# Altium footprint library IC_SMD_DUAL.PCBLIB: 187 footprints (part 1 of 12)
Each footprint in its own frame and in the unit in brackets; x right, y up, seen from the top. Pads: shape width x height; smd on the part's side, far side on the other; paste and mask are expansions set on the pad; w line width, h text height; cw(c..) or ccw(c..) is an arc to the next point about the centre after c.
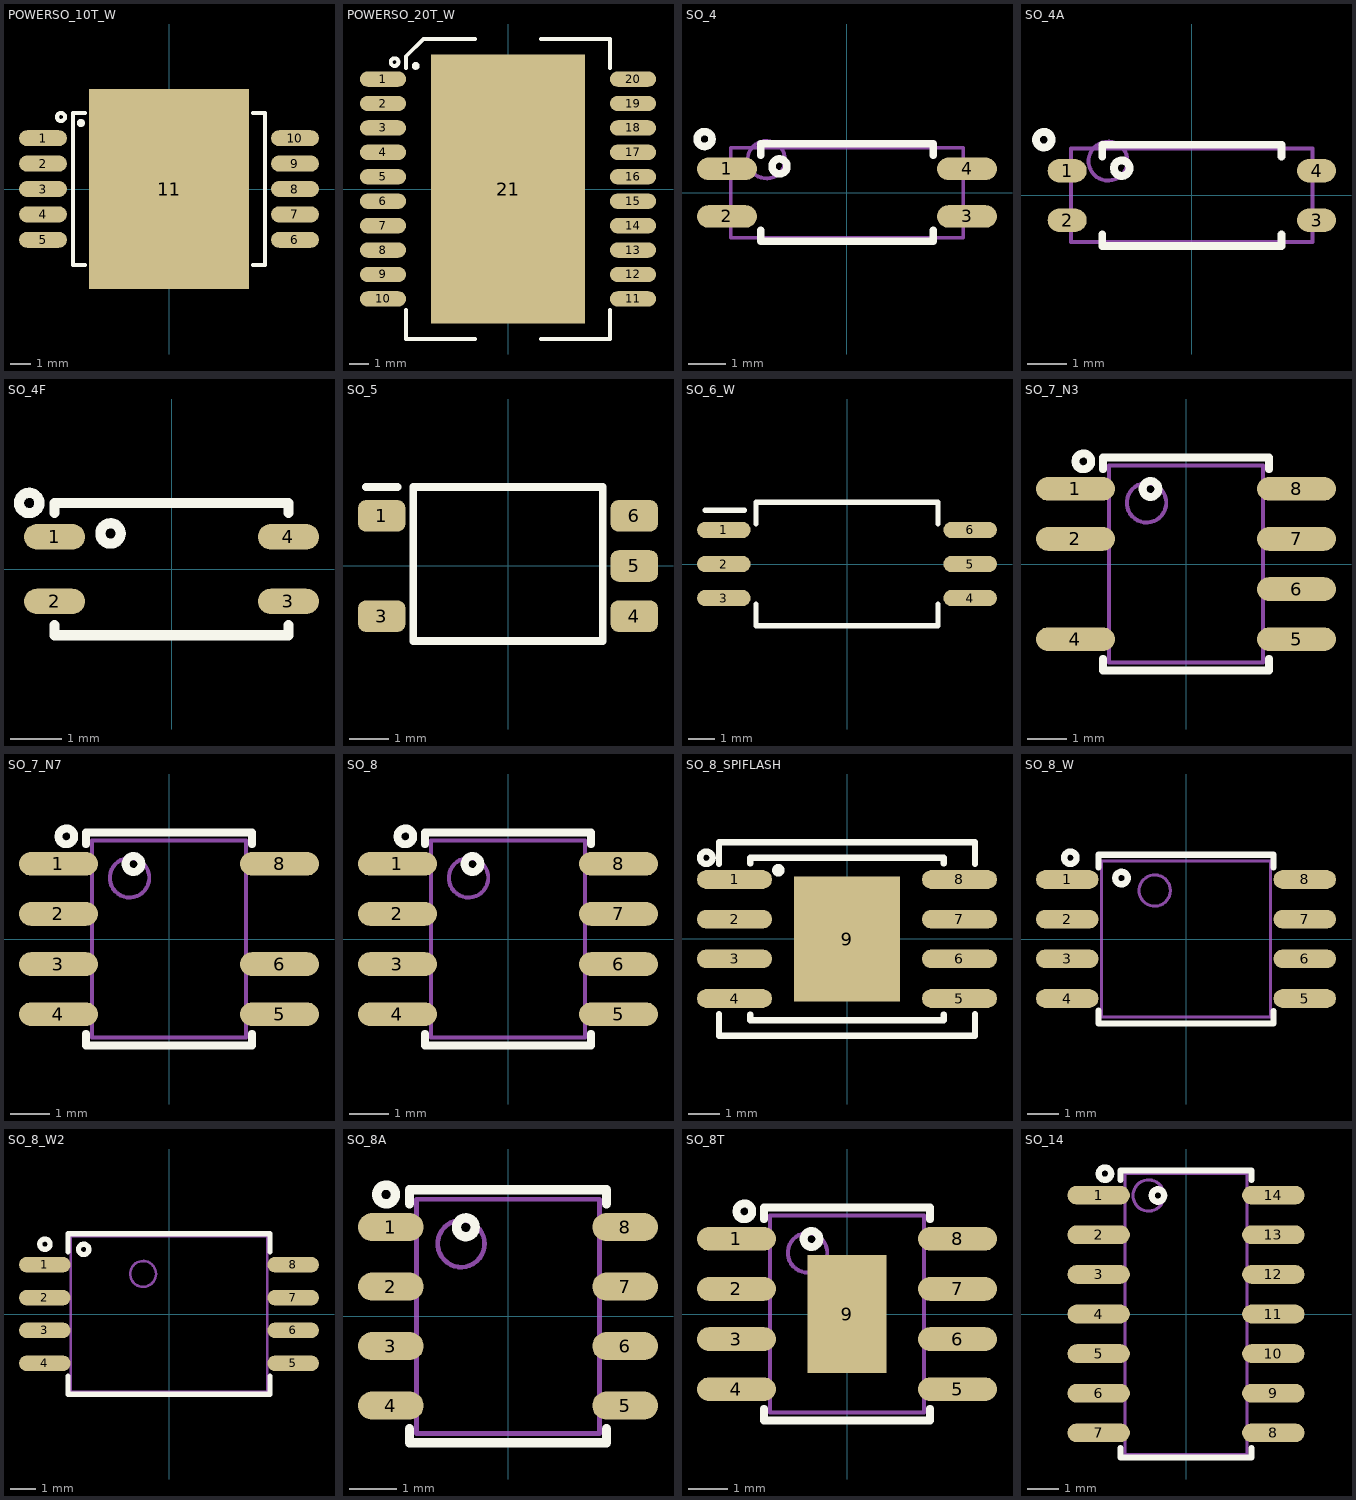
[diagram p0: the footprints below, top view; thin cyan lines are the x and y axes]

## POWERSO_10T_W [mm] "PowerSO-10, 9.4x9.4x3.7mm body, 1.27mm pitch"
height 3.7
pads (11):
  oval 2.4x0.8 smd: 1(-6.3,2.54) 2(-6.3,1.27) 3(-6.3,0) 4(-6.3,-1.27) 5(-6.3,-2.54) 6(6.3,-2.54) 7(6.3,-1.27) 8(6.3,0) 9(6.3,1.27) 10(6.3,2.54)
  rect 8x10 smd paste-5: 11(0,0)
TopOverlay:
  circle w0.2: c-4.4,3.3 r0.1
  circle w0.2: c-5.4,3.6 r0.2
  lines w0.2: -4.2,-3.8 -4.8,-3.8 -4.8,3.8 -4.2,3.8 ; 4.2,-3.8 4.8,-3.8 4.8,3.8 4.2,3.8
TopPaste:
  region: 2.5,-2.8 1.5,-2.8 1.5,-3.8 2.5,-3.8
  region: 1.2,-2.8 0.2,-2.8 0.2,-3.8 1.2,-3.8
  region: 3.8,-2.8 2.8,-2.8 2.8,-3.8 3.8,-3.8
  rectangle: -3.8,-3.8 -2.8,-2.8
  rectangle: -1.2,-3.8 -0.2,-2.8
  rectangle: -2.5,-3.8 -1.5,-2.8
  region: 2.5,3.8 1.5,3.8 1.5,2.8 2.5,2.8
  region: 1.2,3.8 0.2,3.8 0.2,2.8 1.2,2.8
  region: 3.8,3.8 2.8,3.8 2.8,2.8 3.8,2.8
  rectangle: -3.8,2.8 -2.8,3.8
  rectangle: -1.2,2.8 -0.2,3.8
  rectangle: -2.5,2.8 -1.5,3.8
  rectangle: -1.2,0.2 -0.2,1.2
  rectangle: -2.5,1.5 -1.5,2.5
  rectangle: -1.2,1.5 -0.2,2.5
  rectangle: -2.5,0.2 -1.5,1.2
  rectangle: -3.8,0.2 -2.8,1.2
  rectangle: -3.8,1.5 -2.8,2.5
  region: 3.8,2.5 2.8,2.5 2.8,1.5 3.8,1.5
  region: 3.8,1.2 2.8,1.2 2.8,0.2 3.8,0.2
  region: 2.5,1.2 1.5,1.2 1.5,0.2 2.5,0.2
  region: 1.2,2.5 0.2,2.5 0.2,1.5 1.2,1.5
  region: 2.5,2.5 1.5,2.5 1.5,1.5 2.5,1.5
  region: 1.2,1.2 0.2,1.2 0.2,0.2 1.2,0.2
  region: 1.2,-0.2 0.2,-0.2 0.2,-1.2 1.2,-1.2
  region: 2.5,-1.5 1.5,-1.5 1.5,-2.5 2.5,-2.5
  region: 1.2,-1.5 0.2,-1.5 0.2,-2.5 1.2,-2.5
  region: 2.5,-0.2 1.5,-0.2 1.5,-1.2 2.5,-1.2
  region: 3.8,-0.2 2.8,-0.2 2.8,-1.2 3.8,-1.2
  region: 3.8,-1.5 2.8,-1.5 2.8,-2.5 3.8,-2.5
  rectangle: -3.8,-2.5 -2.8,-1.5
  rectangle: -3.8,-1.2 -2.8,-0.2
  rectangle: -2.5,-1.2 -1.5,-0.2
  rectangle: -1.2,-2.5 -0.2,-1.5
  rectangle: -2.5,-2.5 -1.5,-1.5
  rectangle: -1.2,-1.2 -0.2,-0.2
3D body "User Library-POWERSO10.step": height 3.35, standoff 0, extent -6.95,-4.7 6.95,4.7

## POWERSO_20T_W [mm] "PowerSO-20, 9.4x14.2x3.6mm body, 1.27mm pitch"
height 3.7
pads (21):
  oval 2.4x0.8 smd: 1(-6.5,5.715) 2(-6.5,4.445) 3(-6.5,3.175) 4(-6.5,1.905) 5(-6.5,0.635) 6(-6.5,-0.635) 7(-6.5,-1.905) 8(-6.5,-3.175) 9(-6.5,-4.445) 10(-6.5,-5.715) 11(6.5,-5.715) 12(6.5,-4.445) 13(6.5,-3.175) 14(6.5,-1.905) 15(6.5,-0.635) 16(6.5,0.635) 17(6.5,1.905) 18(6.5,3.175) 19(6.5,4.445) 20(6.5,5.715)
  rect 8x14 smd paste-5: 21(0,0)
TopOverlay:
  circle w0.2: c-4.8,6.4 r0.1
  circle w0.2: c-5.9,6.6 r0.2
  lines w0.2: -5.3,-6.3 -5.3,-7.8 -1.7,-7.8 ; -5.3,6.3 -5.3,6.9 -4.4,7.8 -1.7,7.8 ; 1.7,-7.8 5.3,-7.8 5.3,-6.3 ; 1.7,7.8 5.3,7.8 5.3,6.3
TopPaste:
  region: 2.5,-5.4 1.5,-5.4 1.5,-6.4 2.5,-6.4
  region: 1.2,-5.4 0.2,-5.4 0.2,-6.4 1.2,-6.4
  region: 3.8,-5.4 2.8,-5.4 2.8,-6.4 3.8,-6.4
  rectangle: -3.8,-6.4 -2.8,-5.4
  rectangle: -1.2,-6.4 -0.2,-5.4
  rectangle: -2.5,-6.4 -1.5,-5.4
  rectangle: -2.5,-5.1 -1.5,-4.1
  rectangle: -1.2,-5.1 -0.2,-4.1
  rectangle: -3.8,-5.1 -2.8,-4.1
  region: 3.8,-4.1 2.8,-4.1 2.8,-5.1 3.8,-5.1
  region: 1.2,-4.1 0.2,-4.1 0.2,-5.1 1.2,-5.1
  region: 2.5,-4.1 1.5,-4.1 1.5,-5.1 2.5,-5.1
  region: 2.5,6.4 1.5,6.4 1.5,5.4 2.5,5.4
  region: 1.2,6.4 0.2,6.4 0.2,5.4 1.2,5.4
  region: 3.8,6.4 2.8,6.4 2.8,5.4 3.8,5.4
  rectangle: -3.8,5.4 -2.8,6.4
  rectangle: -1.2,5.4 -0.2,6.4
  rectangle: -2.5,5.4 -1.5,6.4
  rectangle: -2.5,4.1 -1.5,5.1
  rectangle: -1.2,4.1 -0.2,5.1
  rectangle: -3.8,4.1 -2.8,5.1
  region: 3.8,5.1 2.8,5.1 2.8,4.1 3.8,4.1
  region: 1.2,5.1 0.2,5.1 0.2,4.1 1.2,4.1
  region: 2.5,5.1 1.5,5.1 1.5,4.1 2.5,4.1
  region: 2.5,-2.8 1.5,-2.8 1.5,-3.8 2.5,-3.8
  region: 1.2,-2.8 0.2,-2.8 0.2,-3.8 1.2,-3.8
  region: 3.8,-2.8 2.8,-2.8 2.8,-3.8 3.8,-3.8
  rectangle: -3.8,-3.8 -2.8,-2.8
  rectangle: -1.2,-3.8 -0.2,-2.8
  rectangle: -2.5,-3.8 -1.5,-2.8
  region: 2.5,3.8 1.5,3.8 1.5,2.8 2.5,2.8
  region: 1.2,3.8 0.2,3.8 0.2,2.8 1.2,2.8
  region: 3.8,3.8 2.8,3.8 2.8,2.8 3.8,2.8
  rectangle: -3.8,2.8 -2.8,3.8
  rectangle: -1.2,2.8 -0.2,3.8
  rectangle: -2.5,2.8 -1.5,3.8
  rectangle: -1.2,0.2 -0.2,1.2
  rectangle: -2.5,1.5 -1.5,2.5
  rectangle: -1.2,1.5 -0.2,2.5
  rectangle: -2.5,0.2 -1.5,1.2
  rectangle: -3.8,0.2 -2.8,1.2
  rectangle: -3.8,1.5 -2.8,2.5
  region: 3.8,2.5 2.8,2.5 2.8,1.5 3.8,1.5
  region: 3.8,1.2 2.8,1.2 2.8,0.2 3.8,0.2
  region: 2.5,1.2 1.5,1.2 1.5,0.2 2.5,0.2
  region: 1.2,2.5 0.2,2.5 0.2,1.5 1.2,1.5
  region: 2.5,2.5 1.5,2.5 1.5,1.5 2.5,1.5
  region: 1.2,1.2 0.2,1.2 0.2,0.2 1.2,0.2
  region: 1.2,-0.2 0.2,-0.2 0.2,-1.2 1.2,-1.2
  region: 2.5,-1.5 1.5,-1.5 1.5,-2.5 2.5,-2.5
  region: 1.2,-1.5 0.2,-1.5 0.2,-2.5 1.2,-2.5
  region: 2.5,-0.2 1.5,-0.2 1.5,-1.2 2.5,-1.2
  region: 3.8,-0.2 2.8,-0.2 2.8,-1.2 3.8,-1.2
  region: 3.8,-1.5 2.8,-1.5 2.8,-2.5 3.8,-2.5
  rectangle: -3.8,-2.5 -2.8,-1.5
  rectangle: -3.8,-1.2 -2.8,-0.2
  rectangle: -2.5,-1.2 -1.5,-0.2
  rectangle: -1.2,-2.5 -0.2,-1.5
  rectangle: -2.5,-2.5 -1.5,-1.5
  rectangle: -1.2,-1.2 -0.2,-0.2
3D body "User Library-PowerSO20.STEP": height 3.6, standoff 0, extent -7.2,-8 7.2,8

## SO_4 [mm] "SOP-4, 2.6x4.4mm body 1.27mm pitch"
height 2.3
pads (4):
  oval 1.6x0.6 smd: 1(-3.2,0.635) 2(-3.2,-0.635) 3(3.2,-0.635) 4(3.2,0.635)
TopOverlay:
  circle w0.2: c-3.8,1.43 r0.2
  circle w0.2: c-1.8,0.7 r0.2
  lines w0.2: -2.3,-1 -2.3,-1.3 2.3,-1.3 2.3,-1 ; -2.3,1 -2.3,1.3 2.3,1.3 2.3,1
Mechanical13:
  circle w0.1: c-2.15,0.88 r0.5
  lines w0.1: -3.1,-1.2 3.1,-1.2 3.1,1.2 -3.1,1.2 -3.1,-1.2
3D body "CircuitWorks-TLP281.step": height 1.9, standoff 0, extent -3.5,-1.3 3.5,1.3

## SO_4A [mm] "SOP-4, 2.6x4.4mm body 1.27mm pitch"
height 2.3
pads (4):
  oval 1x0.6 smd: 1(-3.2,0.635) 2(-3.2,-0.635) 3(3.2,-0.635) 4(3.2,0.635)
TopOverlay:
  circle w0.2: c-3.8,1.43 r0.2
  circle w0.2: c-1.8,0.7 r0.2
  lines w0.2: -2.3,-1 -2.3,-1.3 2.3,-1.3 2.3,-1 ; -2.3,1 -2.3,1.3 2.3,1.3 2.3,1
Mechanical13:
  circle w0.1: c-2.15,0.88 r0.5
  lines w0.1: -3.1,-1.2 3.1,-1.2 3.1,1.2 -3.1,1.2 -3.1,-1.2
3D body "CircuitWorks-TLP281.step": height 1.9, standoff 0, extent -3.5,-1.3 3.5,1.3

## SO_4F [mm] "SOP-4, 2.6x4.4mm body 1.27mm pitch FLAT"
height 2.3
pads (4):
  oval 1.2x0.5 smd: 1(-2.3,0.635) 2(-2.3,-0.635) 3(2.3,-0.635) 4(2.3,0.635)
TopOverlay:
  circle w0.2: c-2.8,1.3 r0.2
  circle w0.2: c-1.2,0.7 r0.2
  lines w0.2: -2.3,-1.1 -2.3,-1.3 2.3,-1.3 2.3,-1.1 ; -2.3,1.1 -2.3,1.3 2.3,1.3 2.3,1.1
3D body: height 2.1, standoff 0, extent -2.3,-1.25 2.3,1.25
3D body: height 0.15, standoff 0, extent -2.5,0.45 -2.1,0.85
3D body: height 0.15, standoff 0, extent -2.5,-0.85 -2.1,-0.45
3D body: height 0.15, standoff 0, extent 2.1,-0.85 2.5,-0.45
3D body: height 0.15, standoff 0, extent 2.1,0.45 2.5,0.85

## SO_5 [mm] "SO-6 5pin, 1.27mm pitch, 4.5x3.7x2.1mm"
height 3.2
pads (5):
  rrect50% 1.2x0.8 smd: 1(-3.2,1.27) 3(-3.2,-1.27) 4(3.2,-1.27) 5(3.2,0) 6(3.2,1.27)
TopOverlay:
  lines w0.2: -3.6,2 -2.8,2 ; -2.4,-1.9 2.4,-1.9 2.4,2 -2.4,2 -2.4,-1.9
3D body "step_temp.STEP": height 2.3, standoff 0, extent -3.5,-1.85 3.5,1.85

## SO_6_W [mm] "SOIC6 W, 1.27mm pitch, 6.8x4.5x3.2mm, 11.5mm H"
height 3.2
pads (6):
  oval 2x0.6 smd: 1(-4.6,1.27) 2(-4.6,0) 3(-4.6,-1.27) 4(4.6,-1.27) 5(4.6,0) 6(4.6,1.27)
TopOverlay:
  lines w0.2: -5.3,2 -3.825,2 ; -3.4,-1.5 -3.4,-2.3 3.4,-2.3 3.4,-1.5 ; -3.4,1.5 -3.4,2.3 3.4,2.3 3.4,1.5
3D body "FOD8173T.stp": height 3.78, standoff 0, extent -4.85,-2.25 4.85,2.25

## SO_7_N3 [mm] "SOP-8 without pin3, 5x3.9mm body 1.27mm pitch, SOT33-5"
height 1.8
pads (7):
  oval 2x0.6 smd: 1(-2.8,1.905) 2(-2.8,0.635) 4(-2.8,-1.905) 5(2.8,-1.905) 6(2.8,-0.635) 7(2.8,0.635) 8(2.8,1.905)
TopOverlay:
  circle w0.2: c-0.9,1.9 r0.2
  circle w0.2: c-2.6,2.6 r0.2
  lines w0.2: -2.1,-2.4 -2.1,-2.7 2.1,-2.7 2.1,-2.4 ; -2.1,2.4 -2.1,2.7 2.1,2.7 2.1,2.4
Mechanical13:
  circle w0.1: c-1,1.55 r0.5
  lines w0.1: -1.95,-2.5 -1.95,2.5 1.95,2.5 1.95,-2.5 -1.95,-2.5
3D body "SOP-8 without pin3.step": height 1.55, standoff -0.01, extent -2.916,-2.411 3.064,2.489

## SO_7_N7 [mm] "SOP-8 without pin7, 5x3.9mm body 1.27mm pitch, SOP-7"
height 1.8
pads (7):
  oval 2x0.6 smd: 1(-2.8,1.905) 2(-2.8,0.635) 3(-2.8,-0.635) 4(-2.8,-1.905) 5(2.8,-1.905) 6(2.8,-0.635) 8(2.8,1.905)
TopOverlay:
  circle w0.2: c-2.6,2.6 r0.2
  circle w0.2: c-0.9,1.9 r0.2
  lines w0.2: -2.1,-2.4 -2.1,-2.7 2.1,-2.7 2.1,-2.4 ; -2.1,2.4 -2.1,2.7 2.1,2.7 2.1,2.4
Mechanical13:
  circle w0.1: c-1,1.55 r0.5
  lines w0.1: -1.95,-2.5 1.95,-2.5 1.95,2.5 -1.95,2.5 -1.95,-2.5
3D body "User Library-SOP7.step": height 1.76, standoff 0, extent -3.126,-2.532 3.127,2.532

## SO_8 [mm] "SOP-8, 5x3.9mm body 1.27mm pitch, SOT96-1, M08A, S8, SOIC8, VO8, MS-012AA(JEDEC), R-8, 8S2, VOG8"
height 1.8
pads (8):
  oval 2x0.6 smd: 1(-2.8,1.905) 2(-2.8,0.635) 3(-2.8,-0.635) 4(-2.8,-1.905) 5(2.8,-1.905) 6(2.8,-0.635) 7(2.8,0.635) 8(2.8,1.905)
TopOverlay:
  circle w0.2: c-2.6,2.6 r0.2
  circle w0.2: c-0.9,1.9 r0.2
  lines w0.2: -2.1,-2.4 -2.1,-2.7 2.1,-2.7 2.1,-2.4 ; -2.1,2.4 -2.1,2.7 2.1,2.7 2.1,2.4
Mechanical13:
  circle w0.1: c-1,1.55 r0.5
  lines w0.1: -1.95,-2.5 1.95,-2.5 1.95,2.5 -1.95,2.5 -1.95,-2.5
3D body "User Library-so8-3.step": height 1.7, standoff 0, extent -3,-2.45 3,2.45

## SO_8_SPIFLASH [mm] "SOP-8 WIDE + WSON-8 6x8 and 6x5 combined"
pads (9):
  oval 2.4x0.6 smd: 1(-3.6,1.905) 2(-3.6,0.635) 3(-3.6,-0.635) 4(-3.6,-1.905) 5(3.6,-1.905) 6(3.6,-0.635) 7(3.6,0.635) 8(3.6,1.905)
  rect 3.4x4 smd paste-5: 9(0,0)
TopOverlay:
  circle w0.2: c-4.5,2.6 r0.2
  circle w0.2: c-2.2,2.2 r0.1
  lines w0.2: -4.1,-2.4 -4.1,-3.1 4.1,-3.1 4.1,-2.4 ; -4.1,2.4 -4.1,3.1 4.1,3.1 4.1,2.4 ; -3.1,-2.413 -3.1,-2.6 3.1,-2.6 3.1,-2.413 ; -3.1,2.413 -3.1,2.6 3.1,2.6 3.1,2.413
TopPaste:
  rectangle: -1.5,-1.8 -0.2,-0.2
  region: 1.5,-0.2 0.2,-0.2 0.2,-1.8 1.5,-1.8
  region: 1.5,1.8 0.2,1.8 0.2,0.2 1.5,0.2
  rectangle: -1.5,0.2 -0.2,1.8
3D body "User Library-SOIC8_Wide_5mmx5mm.step": height 1.75, standoff -0.01, extent -4.051,-2.73 4.05,2.73
3D body "SON127P600-8N.step": height 1, standoff 0, extent -3.05,-2.5 3.05,2.5
3D body "User Library-WSON-8_6x8mm.STEP": height 0.81, standoff -0.07, extent -4,-3 4,3

## SO_8_W [mm] "SOIC Wide, 5x5.3mm body 1.27mm pitch, 5.28mm SOIJ"
pads (8):
  oval 2x0.6 smd: 1(-3.8,1.905) 2(-3.8,0.635) 3(-3.8,-0.635) 4(-3.8,-1.905) 5(3.8,-1.905) 6(3.8,-0.635) 7(3.8,0.635) 8(3.8,1.905)
TopOverlay:
  circle w0.2: c-3.7,2.6 r0.2
  circle w0.2: c-2.064,1.95 r0.2
  lines w0.2: -2.8,-2.3 -2.8,-2.7 2.8,-2.7 2.8,-2.3 ; -2.8,2.3 -2.8,2.7 2.8,2.7 2.8,2.3
Mechanical13:
  circle w0.1: c-1,1.55 r0.5
  lines w0.1: -2.7,-2.5 2.7,-2.5 2.7,2.5 -2.7,2.5 -2.7,-2.5
3D body "User Library-SOIC8_Wide_5mmx5mm.step": height 1.75, standoff -0.01, extent -4.051,-2.73 4.05,2.73

## SO_8_W2 [mm] "SOIC 7.5mm body Width, 1.27mm pitch"
pads (8):
  oval 2x0.6 smd: 1(-4.8,1.905) 2(-4.8,0.635) 3(-4.8,-0.635) 4(-4.8,-1.905) 5(4.8,-1.905) 6(4.8,-0.635) 7(4.8,0.635) 8(4.8,1.905)
TopOverlay:
  circle w0.2: c-3.3,2.5 r0.2
  circle w0.2: c-4.8,2.7 r0.2
  lines w0.2: -3.9,-2.4 -3.9,-3.1 3.9,-3.1 3.9,-2.4 ; -3.9,2.4 -3.9,3.1 3.9,3.1 3.9,2.4
Mechanical13:
  circle w0.1: c-1,1.55 r0.5
  lines w0.1: -3.8,-3 3.8,-3 3.8,3 -3.8,3 -3.8,-3
3D body "SOP-8W7P5.step": height 2.65, standoff 0, extent -5.165,-2.95 5.165,2.95

## SO_8A [mm] "SOP-8, 5x3.9mm body 1.27mm pitch, SOT96-1, M08A, S8, SOIC8, VO8, MS-012AA(JEDEC), R-8, 8S2, VOG8"
height 1.8
pads (8):
  oval 1.4x0.6 smd: 1(-2.5,1.905) 2(-2.5,0.635) 3(-2.5,-0.635) 4(-2.5,-1.905) 5(2.5,-1.905) 6(2.5,-0.635) 7(2.5,0.635) 8(2.5,1.905)
TopOverlay:
  circle w0.2: c-2.6,2.6 r0.2
  circle w0.2: c-0.9,1.9 r0.2
  lines w0.2: -2.1,-2.4 -2.1,-2.7 2.1,-2.7 2.1,-2.4 ; -2.1,2.4 -2.1,2.7 2.1,2.7 2.1,2.4
Mechanical13:
  circle w0.1: c-1,1.55 r0.5
  lines w0.1: -1.95,-2.5 1.95,-2.5 1.95,2.5 -1.95,2.5 -1.95,-2.5
3D body "User Library-so8-3.step": height 1.7, standoff 0, extent -3,-2.45 3,2.45

## SO_8T [mm] "SOP-8, 5x3.9mm body 1.27mm pitch, DDA, SO PowerPAD"
height 1.8
pads (9):
  oval 2x0.6 smd: 1(-2.8,1.905) 2(-2.8,0.635) 3(-2.8,-0.635) 4(-2.8,-1.905) 5(2.8,-1.905) 6(2.8,-0.635) 7(2.8,0.635) 8(2.8,1.905)
  rect 2x3 smd paste-3 mask+0.1: 9(0,0)
TopOverlay:
  circle w0.2: c-0.9,1.9 r0.2
  circle w0.2: c-2.6,2.6 r0.2
  lines w0.2: -2.1,-2.4 -2.1,-2.7 2.1,-2.7 2.1,-2.4 ; -2.1,2.4 -2.1,2.7 2.1,2.7 2.1,2.4
TopPaste:
  rectangle: -0.8,-1.3 0.8,-0.2
  rectangle: -0.8,0.2 0.8,1.3
Mechanical13:
  circle w0.1: c-1,1.55 r0.5
  lines w0.1: -1.95,-2.5 -1.95,2.5 1.95,2.5 1.95,-2.5 -1.95,-2.5
3D body "User Library-so8-3.step": height 1.7, standoff 0, extent -3,-2.45 3,2.45

## SO_14 [mm] "SOP, SOIC, 3.9mm width, 1.27mm pitch,"
pads (14):
  oval 2x0.6 smd: 1(-2.8,3.81) 2(-2.8,2.54) 3(-2.8,1.27) 4(-2.8,0) 5(-2.8,-1.27) 6(-2.8,-2.54) 7(-2.8,-3.81) 8(2.8,-3.81) 9(2.8,-2.54) 10(2.8,-1.27) 11(2.8,0) 12(2.8,1.27) 13(2.8,2.54) 14(2.8,3.81)
TopOverlay:
  circle w0.2: c-2.6,4.5 r0.2
  circle w0.2: c-0.9,3.8 r0.2
  lines w0.2: -2.1,-4.3 -2.1,-4.6 2.1,-4.6 2.1,-4.3 ; -2.1,4.3 -2.1,4.6 2.1,4.6 2.1,4.3
Mechanical13:
  circle w0.1: c-1.2,3.8 r0.5
  lines w0.1: -1.95,-4.5 1.95,-4.5 1.95,4.5 -1.95,4.5 -1.95,-4.5
3D body "User Library-SOIC14_JEDEC_MS-012AB.step": height 1.75, standoff -0.01, extent -3.1,-4.375 3.1,4.375